# Altium schematic symbol library byggern-schematic-libary.SchLib: 9 symbols
Pins are listed as number, name and electrical type; pins without a type are passive.

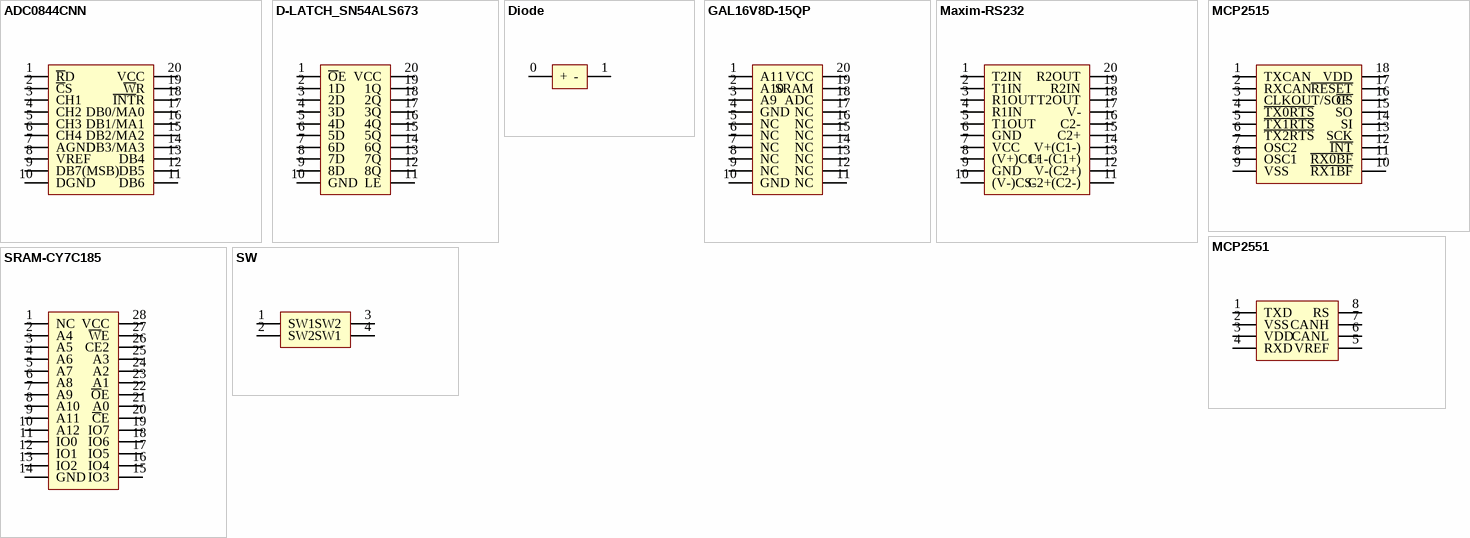
[diagram p0: symbols ADC0844CNN to SW]

## ADC0844CNN
designator U?, comment ADC
Narrow Band Multi-Channel RF Transceiver Module; navn: RC1240; rad: 4; rom: OV; lager_type: Fremlager; dybde: 0; hylle: 2; antall: 40; pakke_opprettet_av: 809; pris: 10; pakketype: 21; produsent: Radiocrafts; id: 2359; kolonne: 4; pakke_opprettet: 21.06.2014 17:19:32; symbol_opprettet_av: 809; symbol_opprettet: 21.06.2014 17:13:48; nokkelord: Narrow Band Multi-Channel RF Transceiver Module
footprint DIP20
pins: 1 ~{R}D, 2 ~{C}S, 3 CH1, 4 CH2, 5 CH3, 6 CH4, 7 AGND, 8 VREF, 9 DB7(MSB), 10 DGND, 11 DB6, 12 DB5, 13 DB4, 14 DB3/MA3, 15 DB2/MA2, 16 DB1/MA1, 17 DB0/MA0, 18 ~{INT}R, 19 ~{W}R, 20 VCC

## D-LATCH_SN54ALS673
designator U?, comment D-LATCH
Narrow Band Multi-Channel RF Transceiver Module; navn: RC1240; rad: 4; rom: OV; lager_type: Fremlager; dybde: 0; hylle: 2; antall: 40; pakke_opprettet_av: 809; pris: 10; pakketype: 21; produsent: Radiocrafts; id: 2359; kolonne: 4; pakke_opprettet: 21.06.2014 17:19:32; symbol_opprettet_av: 809; symbol_opprettet: 21.06.2014 17:13:48; nokkelord: Narrow Band Multi-Channel RF Transceiver Module
footprint DIP20
pins: 1 ~{O}E, 2 1D, 3 2D, 4 3D, 5 4D, 6 5D, 7 6D, 8 7D, 9 8D, 10 GND, 11 LE, 12 8Q, 13 7Q, 14 6Q, 15 5Q, 16 4Q, 17 3Q, 18 2Q, 19 1Q, 20 VCC

## Diode
designator U?, comment REDDIODE
Narrow Band Multi-Channel RF Transceiver Module; navn: RC1240; rad: 4; rom: OV; lager_type: Fremlager; dybde: 0; hylle: 2; antall: 40; pakke_opprettet_av: 809; pris: 10; pakketype: 21; produsent: Radiocrafts; id: 2359; kolonne: 4; pakke_opprettet: 21.06.2014 17:19:32; symbol_opprettet_av: 809; symbol_opprettet: 21.06.2014 17:13:48; nokkelord: Narrow Band Multi-Channel RF Transceiver Module
footprint Diode_TH
pins: 0 +, 1 -

## GAL16V8D-15QP
designator U?, comment GAL
Narrow Band Multi-Channel RF Transceiver Module; navn: RC1240; rad: 4; rom: OV; lager_type: Fremlager; dybde: 0; hylle: 2; antall: 40; pakke_opprettet_av: 809; pris: 10; pakketype: 21; produsent: Radiocrafts; id: 2359; kolonne: 4; pakke_opprettet: 21.06.2014 17:19:32; symbol_opprettet_av: 809; symbol_opprettet: 21.06.2014 17:13:48; nokkelord: Narrow Band Multi-Channel RF Transceiver Module
footprint DIP20
pins: 1 A11, 2 A10, 3 A9, 4 GND, 5 NC, 6 NC, 7 NC, 8 NC, 9 NC, 10 GND, 11 NC, 12 NC, 13 NC, 14 NC, 15 NC, 16 NC, 17 NC, 18 ADC, 19 SRAM, 20 VCC

## Maxim-RS232
designator U?, comment RS232
Narrow Band Multi-Channel RF Transceiver Module; navn: RC1240; rad: 4; rom: OV; lager_type: Fremlager; dybde: 0; hylle: 2; antall: 40; pakke_opprettet_av: 809; pris: 10; pakketype: 21; produsent: Radiocrafts; id: 2359; kolonne: 4; pakke_opprettet: 21.06.2014 17:19:32; symbol_opprettet_av: 809; symbol_opprettet: 21.06.2014 17:13:48; nokkelord: Narrow Band Multi-Channel RF Transceiver Module
footprint DIP20
pins: 1 T2IN, 2 T1IN, 3 R1OUT, 4 R1IN, 5 T1OUT, 6 GND, 7 VCC, 8 (V+)C1+, 9 GND, 10 (V-)CS-, 11 C2+(C2-), 12 V-(C2+), 13 C1-(C1+), 14 V+(C1-), 15 C2+, 16 C2-, 17 V-, 18 T2OUT, 19 R2IN, 20 R2OUT

## MCP2515
designator U?
Narrow Band Multi-Channel RF Transceiver Module; navn: RC1240; rad: 4; rom: OV; lager_type: Fremlager; dybde: 0; hylle: 2; antall: 40; pakke_opprettet_av: 809; pris: 10; pakketype: 21; produsent: Radiocrafts; id: 2359; kolonne: 4; pakke_opprettet: 21.06.2014 17:19:32; symbol_opprettet_av: 809; symbol_opprettet: 21.06.2014 17:13:48; nokkelord: Narrow Band Multi-Channel RF Transceiver Module
footprint DIP18
pins: 1 TXCAN, 2 RXCAN, 3 CLKOUT/SOF, 4 ~{TX0RTS}, 5 ~{TX1RTS}, 6 ~{TX2RTS}, 7 OSC2, 8 OSC1, 9 VSS, 10 ~{RX1BF}, 11 ~{RX0BF}, 12 ~{INT}, 13 SCK, 14 SI, 15 SO, 16 ~{CS}, 17 ~{RESET}, 18 VDD

## MCP2551
designator U?, comment MSP2551
Narrow Band Multi-Channel RF Transceiver Module; navn: RC1240; rad: 4; rom: OV; lager_type: Fremlager; dybde: 0; hylle: 2; antall: 40; pakke_opprettet_av: 809; pris: 10; pakketype: 21; produsent: Radiocrafts; id: 2359; kolonne: 4; pakke_opprettet: 21.06.2014 17:19:32; symbol_opprettet_av: 809; symbol_opprettet: 21.06.2014 17:13:48; nokkelord: Narrow Band Multi-Channel RF Transceiver Module
footprint DIP8
pins: 1 TXD, 2 VSS, 3 VDD, 4 RXD, 5 VREF, 6 CANL, 7 CANH, 8 RS

## SRAM-CY7C185
designator U?, comment SRAM
Narrow Band Multi-Channel RF Transceiver Module; navn: RC1240; rad: 4; rom: OV; lager_type: Fremlager; dybde: 0; hylle: 2; antall: 40; pakke_opprettet_av: 809; pris: 10; pakketype: 21; produsent: Radiocrafts; id: 2359; kolonne: 4; pakke_opprettet: 21.06.2014 17:19:32; symbol_opprettet_av: 809; symbol_opprettet: 21.06.2014 17:13:48; nokkelord: Narrow Band Multi-Channel RF Transceiver Module
footprint DIP28
pins: 1 NC, 2 A4, 3 A5, 4 A6, 5 A7, 6 A8, 7 A9, 8 A10, 9 A11, 10 A12, 11 IO0, 12 IO1, 13 IO2, 14 GND, 15 IO3, 16 IO4, 17 IO5, 18 IO6, 19 IO7, 20 ~{C}E, 21 A0, 22 ~{O}E, 23 A1, 24 A2, 25 A3, 26 CE2, 27 ~{W}E, 28 VCC

## SW
designator U?, comment RC1240
Narrow Band Multi-Channel RF Transceiver Module; rad: 4; rom: OV; lager_type: Fremlager; dybde: 0; hylle: 2; antall: 40; pakke_opprettet_av: 809; pris: 10; pakketype: 21; produsent: Radiocrafts; id: 2359; navn: RC1240; kolonne: 4; pakke_opprettet: 21.06.2014 17:19:32; symbol_opprettet_av: 809; symbol_opprettet: 21.06.2014 17:13:48; nokkelord: Narrow Band Multi-Channel RF Transceiver Module
footprint SW
pins: 1 SW1, 2 SW2, 3 SW2, 4 SW1